# EAGLE library part SIFIVE_FE310 (library SparkFun-IC-Microcontroller)
SiFive FE310 - RISC-V MCU The FE310-G002 is the second Freedom E300 SoC. The FE310-G002 is built around the E31 Core Complex instantiated in the Freedom E300 platform. SparkFun Products: [PRODUCT 1] <[PRODUCT1LINK]>
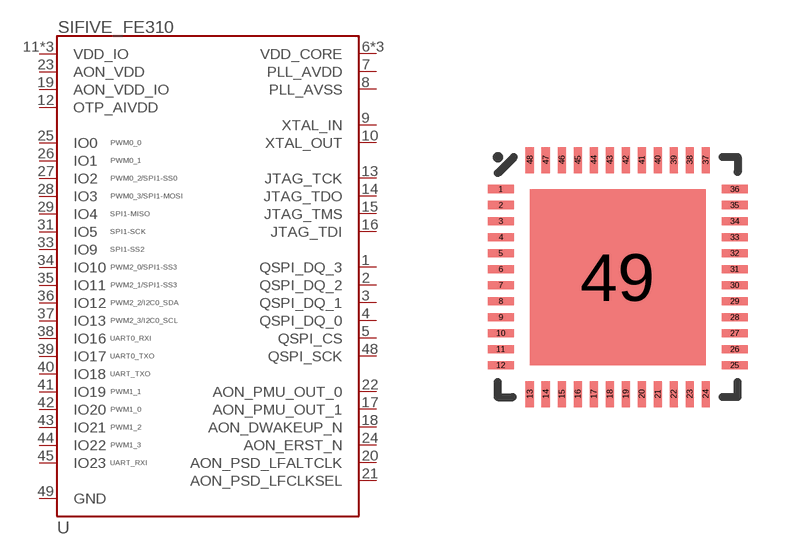
[diagram p47: symbol with the pads of QFN-48-.4MMPITCH; footprint QFN-48-.4MMPITCH]

Designator prefix U

## SIFIVE_FE310 (PROD_ID: IC-14494; VALUE: FE310)  [QFN-48-.4MMPITCH]
1  QSPI_DQ_3
2  QSPI_DQ_2
3  QSPI_DQ_1
4  QSPI_DQ_0
5  QSPI_CS
6  VDD_CORE
7  PLL_AVDD
8  PLL_AVSS
9  XTAL_IN
10  XTAL_OUT
11  VDD_IO
12  OTP_AIVDD
13  JTAG_TCK
14  JTAG_TDO
15  JTAG_TMS
16  JTAG_TDI
17  AON_PMU_OUT_1
18  AON_DWAKEUP_N
19  AON_VDD_IO
20  AON_PSD_LFALTCLK
21  AON_PSD_LFCLKSEL
22  AON_PMU_OUT_0
23  AON_VDD
24  AON_ERST_N
25  IO0
26  IO1
27  IO2
28  IO3
29  IO4
30  VDD_CORE
31  IO5
32  VDD_IO
33  IO9
34  IO10
35  IO11
36  IO12
37  IO13
38  IO16
39  IO17
40  IO18
41  IO19
42  IO20
43  IO21
44  IO22
45  IO23
46  VDD_CORE
47  VDD_IO
48  QSPI_SCK
49  GND

## Footprint QFN-48-.4MMPITCH (pad centres in mm)
48QFN-FE310 Specifications: Pin count: 48 Pin pitch: 0.4mm Area: 6 mm x 6 mm
smd 0.65 x 0.2: 1 -2.925,2.2; 2 -2.925,1.8; 3 -2.925,1.4; 4 -2.925,1; 5 -2.925,0.6; 6 -2.925,0.2; 7 -2.925,-0.2; 8 -2.925,-0.6; 9 -2.925,-1; 10 -2.925,-1.4; 11 -2.925,-1.8; 12 -2.925,-2.2; 25 2.925,-2.2; 26 2.925,-1.8; 27 2.925,-1.4; 28 2.925,-1; 29 2.925,-0.6; 30 2.925,-0.2; 31 2.925,0.2; 32 2.925,0.6; 33 2.925,1; 34 2.925,1.4; 35 2.925,1.8; 36 2.925,2.2
smd 0.2 x 0.65: 13 -2.2,-2.925; 14 -1.8,-2.925; 15 -1.4,-2.925; 16 -1,-2.925; 17 -0.6,-2.925; 18 -0.2,-2.925; 19 0.2,-2.925; 20 0.6,-2.925; 21 1,-2.925; 22 1.4,-2.925; 23 1.8,-2.925; 24 2.2,-2.925; 37 2.2,2.925; 38 1.8,2.925; 39 1.4,2.925; 40 1,2.925; 41 0.6,2.925; 42 0.2,2.925; 43 -0.2,2.925; 44 -0.6,2.925; 45 -1,2.925; 46 -1.4,2.925; 47 -1.8,2.925; 48 -2.2,2.925
smd 4.4 x 4.4: 49 0,0